# EAGLE library part DG3XX-09 (library degson)
DG350-3.5-09P DG306-5.0-09P
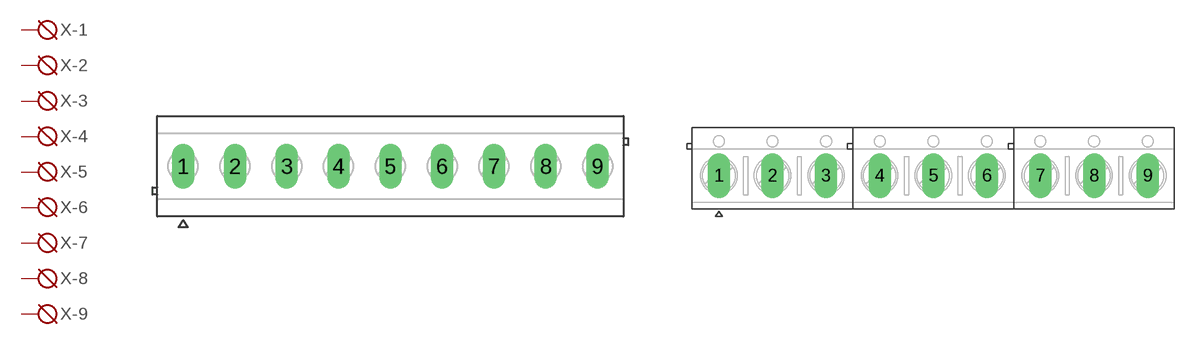
[diagram p3: symbol with the pads of DG350-3.5-09P; footprints DG350-3.5-09P, DG306-5.0-09P]

Designator prefix X; gates -1=KL -2=KL -3=KL -4=KL -5=KL -6=KL -7=KL -8=KL -9=KL

## DG3XX-09-3.5  [DG350-3.5-09P]
1  -1:KL  pas
2  -2:KL  pas
3  -3:KL  pas
4  -4:KL  pas
5  -5:KL  pas
6  -6:KL  pas
7  -7:KL  pas
8  -8:KL  pas
9  -9:KL  pas

## DG3XX-09-5.0  [DG306-5.0-09P]
Pads as for DG350-3.5-09P

## Footprint DG350-3.5-09P (pad centres in mm)
drill 1 long: 1 -14,0; 2 -10.5,0; 3 -7,0; 4 -3.5,0; 5 0,0; 6 3.5,0; 7 7,0; 8 10.5,0; 9 14,0

## Footprint DG306-5.0-09P (pad centres in mm)
drill 1.4 long: 1 -20,0; 2 -15,0; 3 -10,0; 4 -5,0; 5 0,0; 6 5,0; 7 10,0; 8 15,0; 9 20,0